# Altium schematic symbol library OPA197.SchLib: 1 symbol
Pins are listed as number, name and electrical type; pins without a type are passive.

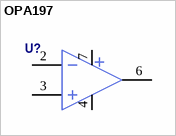
[diagram p0: symbol OPA197]

## OPA197
designator U?  (value not drawn)
pins: 1 NC hidden, 2 INA-, 3 INA+, 4 VSS (power), 5 NC hidden, 6 OUTA, 7 VDD (power), 8 NC hidden